# EAGLE library part PCAP04-AQFM-24 (library Parts)
Data Acquisition ADCs/DACs - Specialized PCAP04-AQFM-24 QFN24 LF T&RDP Source: Datasheet
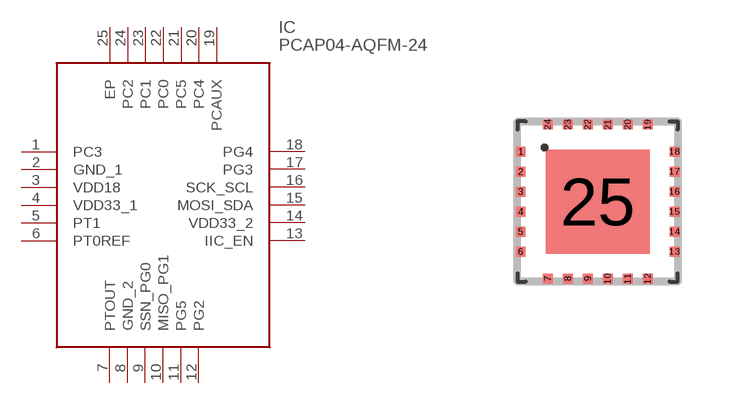
[diagram p2: symbol with the pads of PCAP04AQFM24; footprint PCAP04AQFM24]

Designator prefix IC

## PCAP04-AQFM-24 (DESCRIPTION: Data Acquisition ADCs/DACs - Specialized PCAP04-AQFM-24 QFN24 LF T&RDP; HEIGHT: 1mm; MANUFACTURER_NAME: ScioSense; MANUFACTURER_PART_NUMBER: PCAP04-AQFM-24; MOUSER_PART_NUMBER: 985-PCAP04-AQFM-24; MOUSER_PRICE-STOCK: https://www.mouser.co.uk/ProductDetail/ScioSense/PCAP04-AQFM-24?qs=%252BEew9%252B0nqrABj8vVM%2FUqRw%3D%3D)  [PCAP04AQFM24]
1  PC3
2  GND_1
3  VDD18
4  VDD33_1
5  PT1
6  PT0REF
7  PTOUT
8  GND_2
9  SSN_PG0
10  MISO_PG1
11  PG5
12  PG2
13  IIC_EN
14  VDD33_2
15  MOSI_SDA
16  SCK_SCL
17  PG3
18  PG4
19  PCAUX
20  PC4
21  PC5
22  PC0
23  PC1
24  PC2
25  EP

## Footprint PCAP04AQFM24 (pad centres in mm)
PCAP04-AQFM-24-4
smd 0.25 x 0.25: 1 -1.925,1.25; 2 -1.925,0.75; 3 -1.925,0.25; 4 -1.925,-0.25; 5 -1.925,-0.75; 6 -1.925,-1.25; 7 -1.25,-1.925; 8 -0.75,-1.925; 9 -0.25,-1.925; 10 0.25,-1.925; 11 0.75,-1.925; 12 1.25,-1.925; 13 1.925,-1.25; 14 1.925,-0.75; 15 1.925,-0.25; 16 1.925,0.25; 17 1.925,0.75; 18 1.925,1.25; 19 1.25,1.925; 20 0.75,1.925; 21 0.25,1.925; 22 -0.25,1.925; 23 -0.75,1.925; 24 -1.25,1.925
smd 2.6 x 2.6: 25 0,0